# EAGLE library part DIP16_SOCKET (library harrison)
DIP-16 socket footprint
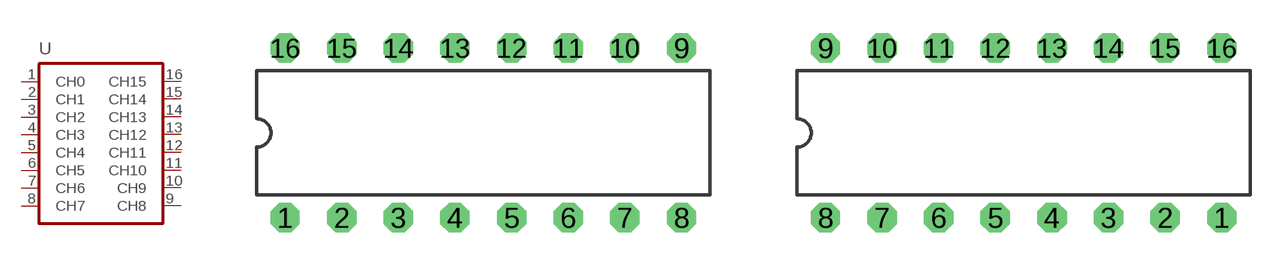
[diagram p35: symbol with the pads of DIL16_SOCKET; footprints DIL16_SOCKET, DIL16_SOCKET_BW]

Designator prefix -

## DIP16_SOCKET  [DIL16_SOCKET]
1  CH0  pas
2  CH1  pas
3  CH2  pas
4  CH3  pas
5  CH4  pas
6  CH5  pas
7  CH6  pas
8  CH7  pas
9  CH8  pas
10  CH9  pas
11  CH10  pas
12  CH11  pas
13  CH12  pas
14  CH13  pas
15  CH14  pas
16  CH15  pas

## DIP16_SOCKET-BW  [DIL16_SOCKET_BW]
Pads as for DIL16_SOCKET

## Footprint DIL16_SOCKET (pad centres in mm)
drill 0.813 octagon: 1 -7.62,-3.81; 2 -5.08,-3.81; 3 -2.54,-3.81; 4 0,-3.81; 5 2.54,-3.81; 6 5.08,-3.81; 7 7.62,-3.81; 8 10.16,-3.81; 9 10.16,3.81; 10 7.62,3.81; 11 5.08,3.81; 12 2.54,3.81; 13 0,3.81; 14 -2.54,3.81; 15 -5.08,3.81; 16 -7.62,3.81

## Footprint DIL16_SOCKET_BW (pad centres in mm)
drill 0.813 octagon: 1 8.89,-3.81; 2 6.35,-3.81; 3 3.81,-3.81; 4 1.27,-3.81; 5 -1.27,-3.81; 6 -3.81,-3.81; 7 -6.35,-3.81; 8 -8.89,-3.81; 9 -8.89,3.81; 10 -6.35,3.81; 11 -3.81,3.81; 12 -1.27,3.81; 13 1.27,3.81; 14 3.81,3.81; 15 6.35,3.81; 16 8.89,3.81